# Altium footprint library CTSC3S.PcbLib: 1 footprints
Each footprint in its own frame and in the unit in brackets; x right, y up, seen from the top. Pads: shape width x height; smd on the part's side, far side on the other; paste and mask are expansions set on the pad; w line width, h text height; cw(c..) or ccw(c..) is an arc to the next point about the centre after c.
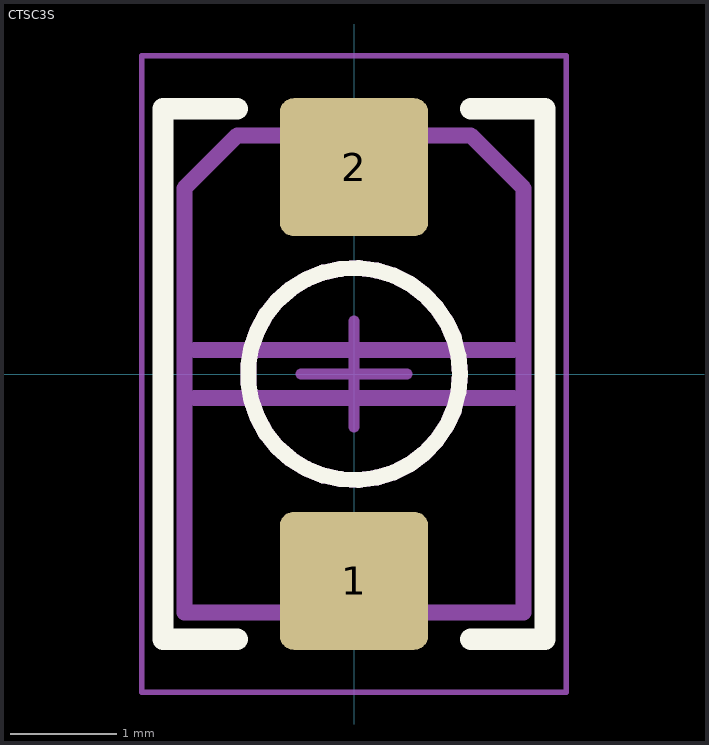
[diagram p0: the footprint, top view; thin cyan lines are the x and y axes]

## CTSC3S [mm] "SMT Trimmer Capacitor"
height 1.5
pads (2):
  rrect20% 1.4x1.3 smd: 1(0,-1.95) 2(0,1.95)
Top Overlay:
  circle w0.15: c0,0 r1
  lines w0.2: -1.1,-2.5 -1.8,-2.5 -1.8,2.5 -1.1,2.5 ; 1.1,-2.5 1.8,-2.5 1.8,2.5 1.1,2.5
Comp Outl Top SMD:
  circle w0.15: c0,0 r1
  lines w0.15: -1.5,-0.225 1.5,-0.225 ; -1.5,0.225 1.5,0.225 ; -1.6,-2.25 1.6,-2.25 1.6,1.75 1.1,2.25 -1.1,2.25 -1.6,1.75 -1.6,-2.25
Desg Top SMD:
  text ".Designator" at -1,-0.5 h1
Value Top SMD:
  text ".Comment" at -2.3,-2.3 h0.8
Courtyard Top:
  lines w0.05: -2,-3 2,-3 2,3 -2,3 -2,-3
  lines w0.1: -0.5,0 0.5,0 ; 0,-0.5 0,0.5
3D body: height 1.5, standoff 0, extent -1.6,-2.26 1.6,2.26